# Altium schematic symbol library разъемы отечественные.SchLib: 7 symbols
Pins are listed as number, name and electrical type; pins without a type are passive.

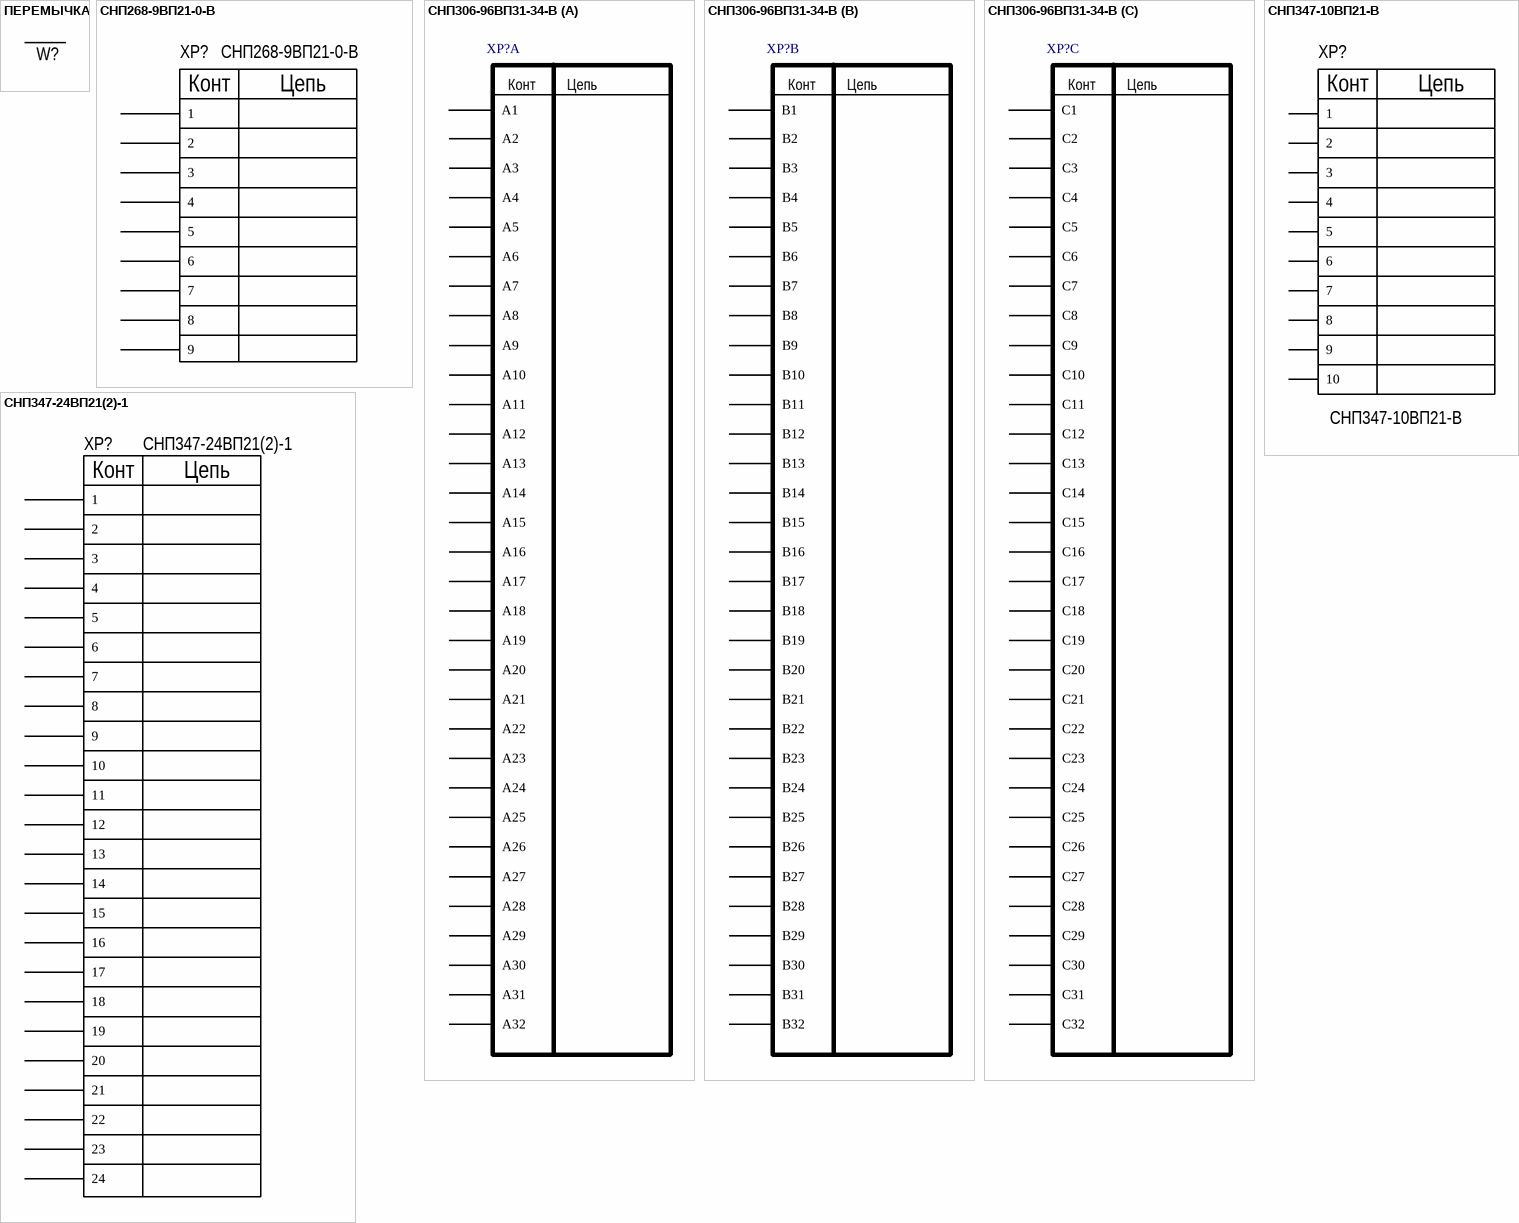
[diagram p0: symbols ПЕРЕМЫЧКА to СНП347-24ВП21(2)-1]

## ПЕРЕМЫЧКА
designator W?  (value not drawn)  (net tie, no BOM)
footprint ПЕРЕМЫЧКА
pins: 1, 2

## СНП268-9ВП21-0-В
designator XP?
footprint СНП268-9ВП21-0-В
pins: 1, 2, 3, 4, 5, 6, 7, 8, 9
text: Конт; Цепь

## СНП306-96ВП31-34-В
designator XP?  (value not drawn)
footprint СНП306-96ВП31-34-В
part A pins: A1, A2, A3, A4, A5, A6, A7, A8, A9, A10, A11, A12, A13, A14, A15, A16, A17, A18, A19, A20, A21, A22, A23, A24, A25, A26, A27, A28, A29, A30, A31, A32
part B pins: B1, B2, B3, B4, B5, B6, B7, B8, B9, B10, B11, B12, B13, B14, B15, B16, B17, B18, B19, B20, B21, B22, B23, B24, B25, B26, B27, B28, B29, B30, B31, B32
part C pins: C1, C2, C3, C4, C5, C6, C7, C8, C9, C10, C11, C12, C13, C14, C15, C16, C17, C18, C19, C20, C21, C22, C23, C24, C25, C26, C27, C28, C29, C30, C31, C32
part A text: Конт; Цепь
part B text: Конт; Цепь
part C text: Конт; Цепь

## СНП347-10ВП21-В
designator XP?
footprint СНП347-10ВП21-В
pins: 1, 2, 3, 4, 5, 6, 7, 8, 9, 10
text: Конт; Цепь

## СНП347-24ВП21(2)-1
designator XP?
footprint СНП347-50ВП21(2)-1
pins: 1, 2, 3, 4, 5, 6, 7, 8, 9, 10, 11, 12, 13, 14, 15, 16, 17, 18, 19, 20, 21, 22, 23, 24
text: Конт; Цепь

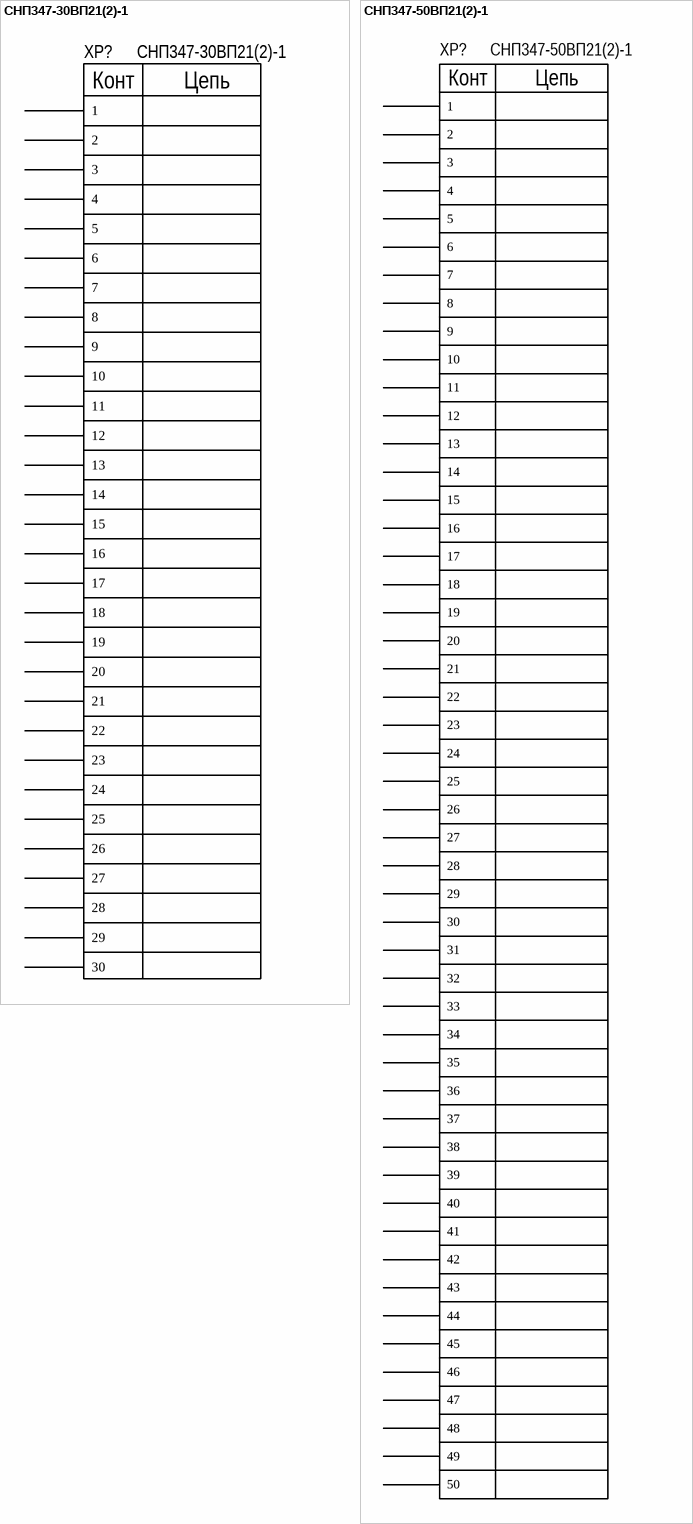
[diagram p1: symbols СНП347-30ВП21(2)-1 to СНП347-50ВП21(2)-1]

## СНП347-30ВП21(2)-1
designator XP?
footprint СНП347-30ВП21(2)-1
pins: 1, 2, 3, 4, 5, 6, 7, 8, 9, 10, 11, 12, 13, 14, 15, 16, 17, 18, 19, 20, 21, 22, 23, 24, 25, 26, 27, 28, 29, 30
text: Конт; Цепь

## СНП347-50ВП21(2)-1
designator XP?
footprint СНП347-50ВП21(2)-1
pins: 1, 2, 3, 4, 5, 6, 7, 8, 9, 10, 11, 12, 13, 14, 15, 16, 17, 18, 19, 20, 21, 22, 23, 24, 25, 26, 27, 28, 29, 30, 31, 32, 33, 34, 35, 36, 37, 38, 39, 40, 41, 42, 43, 44, 45, 46, 47, 48, 49, 50
text: Конт; Цепь